# Altium footprint library LEDs.PcbLib: 1 footprints
Each footprint in its own frame and in the unit in brackets; x right, y up, seen from the top. Pads: shape width x height; smd on the part's side, far side on the other; paste and mask are expansions set on the pad; w line width, h text height; cw(c..) or ccw(c..) is an arc to the next point about the centre after c.
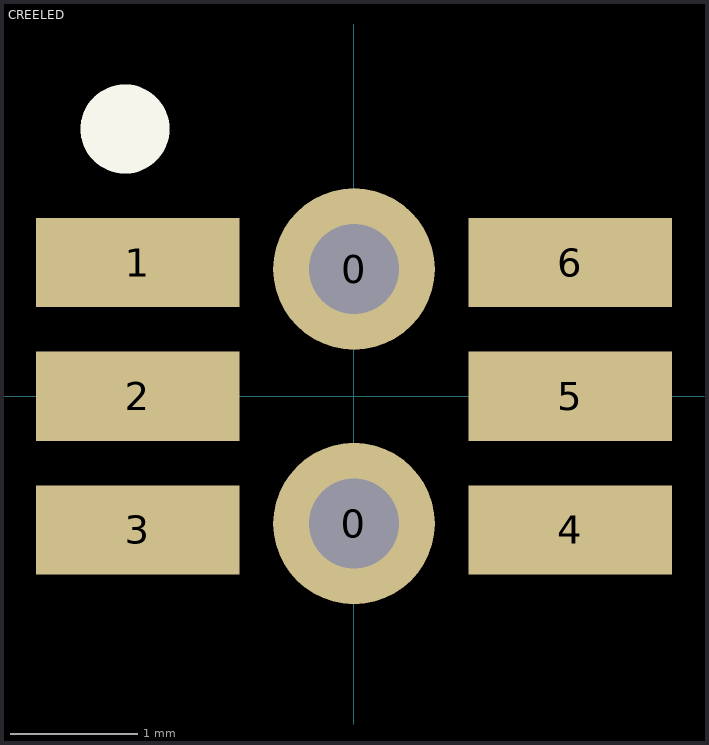
[diagram p0: the footprint, top view; thin cyan lines are the x and y axes]

## CREELED [mm]
pads (8):
  round 1.27 hole 0.71: 0(0,-1) 0(0,1)
  rect 1.6x0.7 smd: 1(-1.7,1.05) 2(-1.7,0) 3(-1.7,-1.05) 4(1.7,-1.05) 5(1.7,0) 6(1.7,1.05)
Top Overlay:
  circle w0.5: c-1.8,2.1 r0.1
3D body: height 3.1, standoff 0, extent -1.7,-1.7 1.7,1.7
3D body: height 3.2, standoff 3.1, extent -1.488,-1.497 1.5,1.497